# Altium footprint library Main_Board.PcbLib: 78 footprints (part 4 of 5)
Each footprint in its own frame and in the unit in brackets; x right, y up, seen from the top. Pads: shape width x height; smd on the part's side, far side on the other; paste and mask are expansions set on the pad; w line width, h text height; cw(c..) or ccw(c..) is an arc to the next point about the centre after c.
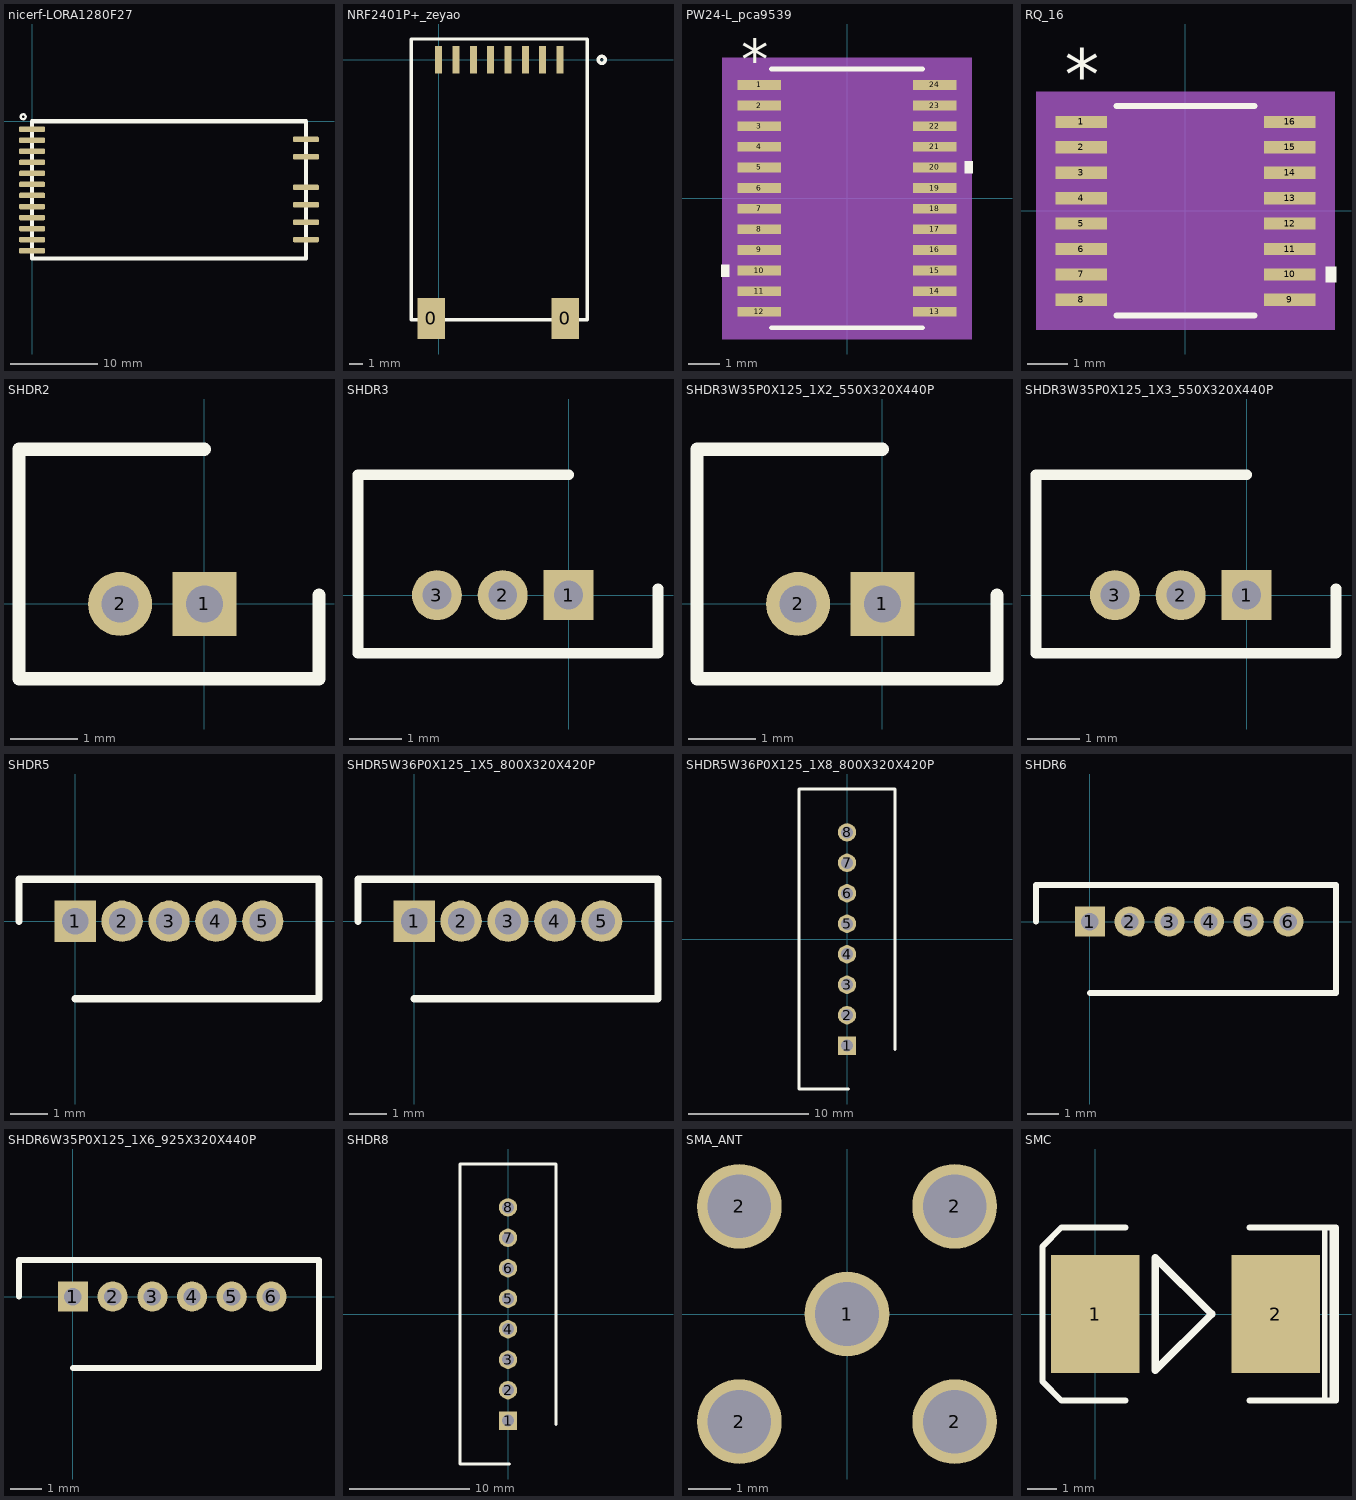
[diagram p3: the footprints below, top view; thin cyan lines are the x and y axes]

## nicerf-LORA1280F27 [mm] "nicerf-LORA1280F27"
pads (18):
  rrect50% 3x0.635 smd: 1(0,-0.93) 2(0,-2.2) 3(0,-3.47) 4(0,-4.74) 5(0,-6.01) 6(0,-7.28) 7(0,-8.55) 8(0,-9.82) 9(0,-11.09) 10(0,-12.36) 11(0,-13.63) 12(0,-14.9) 13(31.51,-13.62) 14(31.51,-11.62) 15(31.51,-9.62) 16(31.51,-7.62) 17(31.51,-4.1) 18(31.51,-2.1)
Top Overlay:
  circle w0.254: c-1.016,0.508 r0.284
  lines w0.508: 0,-15.8 0,0 31.51,0 31.51,-15.8 0,-15.8

## NRF2401P+_zeyao [mm]
pads (10):
  rect 2x3 smd: 0(-0.532,-18.923) 0(9.271,-18.923)
  rect 0.508x2 smd: 1(8.89,0) 2(7.62,0) 3(6.35,0) 4(5.08,0) 5(3.81,0) 6(2.54,0) 7(1.27,0) 8(0,0)
Top Overlay:
  circle w0.254: c11.938,0 r0.254
  lines w0.254: 10.89,-19 -2,-19 -2,1.524 10.89,1.524 10.89,-18.923

## PW24-L_pca9539 [mil]
pads (24):
  rect 54x12 smd paste+0 mask+0: 1(-109,140.75) 2(-109,115.16) 3(-109,89.57) 4(-109,63.98) 5(-109,38.39) 6(-109,12.8) 7(-109,-12.8) 8(-109,-38.39) 9(-109,-63.98) 10(-109,-89.57) 11(-109,-115.16) 12(-109,-140.75) 13(109,-140.75) 14(109,-115.16) 15(109,-89.57) 16(109,-63.98) 17(109,-38.39) 18(109,-12.8) 19(109,12.8) 20(109,38.39) 21(109,63.98) 22(109,89.57) 23(109,115.16) 24(109,140.75)
Top Overlay:
  region: 146,45.89 156,45.89 156,30.89 146,30.89
  region: -146,-82.07 -156,-82.07 -156,-97.07 -146,-97.07
  lines w6: -93.5,-160.5 93.5,-160.5 ; -93.5,160.5 93.5,160.5
  text "*" at -131.5,147.75 h50
Mechanical 5:
  region: 155,-174.5 -155,-174.5 -155,174.5 155,174.5
Mechanical 13:
  lines w0: -12,155.5 ccw(c0,155.5) 12,155.5
  lines w1: -130,-146.75 -88.5,-146.75 -88.5,-134.75 -130,-134.75 -130,-146.75 ; -130,-121.16 -88.5,-121.16 -88.5,-109.16 -130,-109.16 -130,-121.16 ; -130,-95.57 -88.5,-95.57 -88.5,-83.57 -130,-83.57 -130,-95.57 ; -130,-69.98 -88.5,-69.98 -88.5,-57.98 -130,-57.98 -130,-69.98 ; -130,-44.39 -88.5,-44.39 -88.5,-32.39 -130,-32.39 -130,-44.39 ; -130,-18.8 -88.5,-18.8 -88.5,-6.8 -130,-6.8 -130,-18.8 ; -130,6.8 -88.5,6.8 -88.5,18.8 -130,18.8 -130,6.8 ; -130,32.39 -88.5,32.39 -88.5,44.39 -130,44.39 -130,32.39 ; -130,57.98 -88.5,57.98 -88.5,69.98 -130,69.98 -130,57.98 ; -130,83.57 -88.5,83.57 -88.5,95.57 -130,95.57 -130,83.57 ; -130,109.16 -88.5,109.16 -88.5,121.16 -130,121.16 -130,109.16 ; -130,134.75 -88.5,134.75 -88.5,146.75 -130,146.75 -130,134.75 ; -88.5,-155.5 -88.5,155.5 88.5,155.5 88.5,-155.5 -88.5,-155.5 ; 88.5,-146.75 130,-146.75 130,-134.75 88.5,-134.75 88.5,-146.75 ; 88.5,-121.16 130,-121.16 130,-109.16 88.5,-109.16 88.5,-121.16 ; 88.5,-95.57 130,-95.57 130,-83.57 88.5,-83.57 88.5,-95.57 ; 88.5,-69.98 130,-69.98 130,-57.98 88.5,-57.98 88.5,-69.98 ; 88.5,-44.39 130,-44.39 130,-32.39 88.5,-32.39 88.5,-44.39 ; 88.5,-18.8 130,-18.8 130,-6.8 88.5,-6.8 88.5,-18.8 ; 88.5,6.8 130,6.8 130,18.8 88.5,18.8 88.5,6.8 ; 88.5,32.39 130,32.39 130,44.39 88.5,44.39 88.5,32.39 ; 88.5,57.98 130,57.98 130,69.98 88.5,69.98 88.5,57.98 ; 88.5,83.57 130,83.57 130,95.57 88.5,95.57 88.5,83.57 ; 88.5,109.16 130,109.16 130,121.16 88.5,121.16 88.5,109.16 ; 88.5,134.75 130,134.75 130,146.75 88.5,146.75 88.5,134.75
  text "*" at -86,102.5 h50
Mechanical 15:
  region: -92.5,-150.75 -140,-150.75 -140,150.75 -92.5,150.75 -92.5,159.5 92.5,159.5 92.5,150.75 140,150.75 140,-150.75 92.5,-150.75 92.5,-159.5 -92.5,-159.5
  lines w6: -140,-150.75 -92.5,-150.75 -92.5,-159.5 92.5,-159.5 92.5,-150.75 140,-150.75 140,150.75 92.5,150.75 92.5,159.5 -92.5,159.5 -92.5,150.75 -140,150.75 -140,-150.75
3D body: height 10, standoff 0, extent 0,0 10,10

## RQ_16 [mil] "ADuM141D"
pads (16):
  rect 51x12 smd paste+0 mask+0: 1(-102.5,87.5) 2(-102.5,62.5) 3(-102.5,37.5) 4(-102.5,12.5) 5(-102.5,-12.5) 6(-102.5,-37.5) 7(-102.5,-62.5) 8(-102.5,-87.5) 9(102.5,-87.5) 10(102.5,-62.5) 11(102.5,-37.5) 12(102.5,-12.5) 13(102.5,12.5) 14(102.5,37.5) 15(102.5,62.5) 16(102.5,87.5)
Top Overlay:
  region: 138,-55 148,-55 148,-70 138,-70
  lines w6: -67.98,-103 67.98,-103 ; -67.98,103 67.98,103
  text "*" at -118.5,110 h50
Mechanical 5:
  region: 147,-117 -147,-117 -147,117 147,117
Mechanical 13:
  lines w0: -12,98 ccw(c0,98) 12,98
  lines w1: -122,-93.5 -122,-81.5 -78.5,-81.5 -78.5,-93.5 -122,-93.5 ; -122,-68.5 -122,-56.5 -78.5,-56.5 -78.5,-68.5 -122,-68.5 ; -122,-43.5 -122,-31.5 -78.5,-31.5 -78.5,-43.5 -122,-43.5 ; -122,-18.5 -122,-6.5 -78.5,-6.5 -78.5,-18.5 -122,-18.5 ; -122,6.5 -122,18.5 -78.5,18.5 -78.5,6.5 -122,6.5 ; -122,31.5 -122,43.5 -78.5,43.5 -78.5,31.5 -122,31.5 ; -122,56.5 -122,68.5 -78.5,68.5 -78.5,56.5 -122,56.5 ; -122,81.5 -122,93.5 -78.5,93.5 -78.5,81.5 -122,81.5 ; -78.5,-98 78.5,-98 78.5,98 -78.5,98 -78.5,-98 ; 78.5,-93.5 78.5,-81.5 122,-81.5 122,-93.5 78.5,-93.5 ; 78.5,-68.5 78.5,-56.5 122,-56.5 122,-68.5 78.5,-68.5 ; 78.5,-43.5 78.5,-31.5 122,-31.5 122,-43.5 78.5,-43.5 ; 78.5,-18.5 78.5,-6.5 122,-6.5 122,-18.5 78.5,-18.5 ; 78.5,6.5 78.5,18.5 122,18.5 122,6.5 78.5,6.5 ; 78.5,31.5 78.5,43.5 122,43.5 122,31.5 78.5,31.5 ; 78.5,56.5 78.5,68.5 122,68.5 122,56.5 78.5,56.5 ; 78.5,81.5 78.5,93.5 122,93.5 122,81.5 78.5,81.5
  text "*" at -76,45 h50
Mechanical 15:
  region: -82.5,-97.5 -132,-97.5 -132,97.5 -82.5,97.5 -82.5,102 82.5,102 82.5,97.5 132,97.5 132,-97.5 82.5,-97.5 82.5,-102 -82.5,-102
  lines w6: -132,-97.5 -132,97.5 -82.5,97.5 -82.5,102 82.5,102 82.5,97.5 132,97.5 132,-97.5 82.5,-97.5 82.5,-102 -82.5,-102 -82.5,-97.5 -132,-97.5
3D body: height 10, standoff 0, extent 0,0 10,10

## SHDR2 [mm]
pads (2):
  rect 0.95x0.95 hole 0.55: 1(0,0)
  round 0.95 hole 0.55: 2(-1.25,0)
Top Overlay:
  lines w0.2: 0,2.293 -2.75,2.293 -2.75,-1.107 1.651,-1.107 ; 1.7,-1.107 1.7,-0.176 1.7,0.127

## SHDR3 [mm]
pads (3):
  rect 0.95x0.95 hole 0.55: 1(0,0)
  round 0.95 hole 0.55: 2(-1.25,0) 3(-2.5,0)
Top Overlay:
  lines w0.2: 0,2.293 -4,2.293 -4,-1.107 1.651,-1.107 ; 1.7,-1.107 1.7,-0.176 1.7,0.127

## SHDR3W35P0X125_1X2_550X320X440P [mm]
pads (2):
  rect 0.95x0.95 hole 0.55: 1(0,0)
  round 0.95 hole 0.55 paste+0 mask+0.102: 2(-1.25,0)
Top Overlay:
  lines w0.2: 0,2.293 -2.75,2.293 -2.75,-1.107 1.651,-1.107 ; 1.7,-1.107 1.7,-0.176 1.7,0.127

## SHDR3W35P0X125_1X3_550X320X440P [mm]
pads (3):
  rect 0.95x0.95 hole 0.55: 1(0,0)
  round 0.95 hole 0.55: 2(-1.25,0) 3(-2.5,0)
Top Overlay:
  lines w0.2: 0,2.293 -4,2.293 -4,-1.107 1.651,-1.107 ; 1.7,-1.107 1.7,-0.176 1.7,0.127

## SHDR5 [mm]
pads (5):
  rect 1.1x1.1 hole 0.7: 1(0,0)
  round 1.1 hole 0.7: 2(1.25,0) 3(2.5,0) 4(3.75,0) 5(5,0)
Top Overlay:
  lines w0.2: -1.5,0 -1.5,1.125 6.5,1.125 6.5,-2.075 0,-2.075

## SHDR5W36P0X125_1X5_800X320X420P [mm]
pads (5):
  rect 1.1x1.1 hole 0.7: 1(0,0)
  round 1.1 hole 0.7: 2(1.25,0) 3(2.5,0) 4(3.75,0) 5(5,0)
Top Overlay:
  lines w0.2: -1.5,0 -1.5,1.125 6.5,1.125 6.5,-2.075 0,-2.075

## SHDR5W36P0X125_1X8_800X320X420P [mil] "Used for Motor connecter in ZJUNlict"
pads (8):
  rect 60x60 hole 39.37: 1(0,-350)
  round 60 hole 39.37: 2(0,-250) 3(0,-150) 4(0,-50) 5(0,50) 6(0,150) 7(0,250) 8(0,350)
Top Overlay:
  lines w10: 5,-492.13 -157.48,-492.13 -157.48,492.13 157.48,492.13 157.48,-362.48

## SHDR6 [mm]
pads (6):
  rect 0.95x0.95 hole 0.55: 1(0,0)
  round 0.95 hole 0.55: 2(1.25,0) 3(2.5,0) 4(3.75,0) 5(5,0) 6(6.25,0)
Top Overlay:
  lines w0.2: -1.7,0 -1.7,1.15 7.75,1.15 7.75,-2.25 0,-2.25

## SHDR6W35P0X125_1X6_925X320X440P [mm]
pads (6):
  rect 0.95x0.95 hole 0.55: 1(0,0)
  round 0.95 hole 0.55: 2(1.25,0) 3(2.5,0) 4(3.75,0) 5(5,0) 6(6.25,0)
Top Overlay:
  lines w0.2: -1.7,0 -1.7,1.15 7.75,1.15 7.75,-2.25 0,-2.25

## SHDR8 [mil] "Used for Motor connecter in ZJUNlict"
pads (8):
  rect 60x60 hole 39.37: 1(0,-350)
  round 60 hole 39.37: 2(0,-250) 3(0,-150) 4(0,-50) 5(0,50) 6(0,150) 7(0,250) 8(0,350)
Top Overlay:
  lines w10: 5,-492.13 -157.48,-492.13 -157.48,492.13 157.48,492.13 157.48,-362.48

## SMA_ANT [mm]
pads (5):
  round 2 hole 1.5: 1(0,0) 2(-2.54,-2.54) 2(-2.54,2.54) 2(2.54,-2.54) 2(2.54,2.54)

## SMC [mm]
height 1.45
pads (2):
  rect 3x4 smd: 1(0,0) 2(6.096,0)
Top Overlay:
  lines w0.2: 7.747,-2.921 7.747,2.921 ; 8.001,-2.921 8.001,2.921 ; 8.128,-2.921 8.128,2.921
  lines w0.203: 1.016,-2.921 -1.143,-2.921 -1.778,-2.286 -1.778,2.286 -1.143,2.921 1.016,2.921 ; 5.207,-2.921 8.128,-2.921 ; 5.207,2.921 8.128,2.921
  lines w0.254: 2.032,-1.905 2.032,1.905 3.937,0 2.032,-1.905